# EAGLE library part STOD1317BTPUR (library lib)
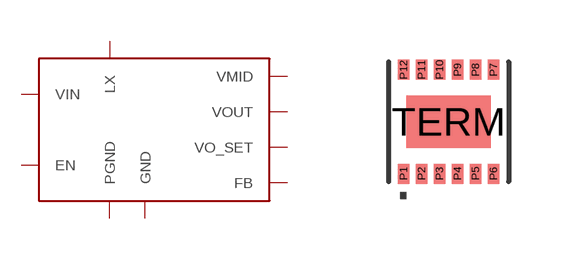
[diagram p1: symbol with the pads of DFN12L; footprint DFN12L]

Designator prefix -

## STOD1317BTPUR  [DFN12L]
P1  VMID
P2  VOUT
P3  VO_SET
P4  GND
P5  FB
P6  EN
P8  VIN
P9  PGND
P10  PGND
P11  LX
P12  LX

## Footprint DFN12L (pad centres in mm)
smd 0.28 x 0.5: P1 -1.125,-1.3; P2 -0.675,-1.3; P3 -0.225,-1.3; P4 0.225,-1.3; P5 0.675,-1.3; P6 1.125,-1.3; P7 1.125,1.3; P8 0.675,1.3; P9 0.225,1.3; P10 -0.225,1.3; P11 -0.675,1.3; P12 -1.125,1.3
smd 2.12 x 1.31: TERM 0,0